# EAGLE library part SN65HVD230D (library SAE_2019)
SN65HVD230 TI - 3.3-V CAN Bus Transceivers
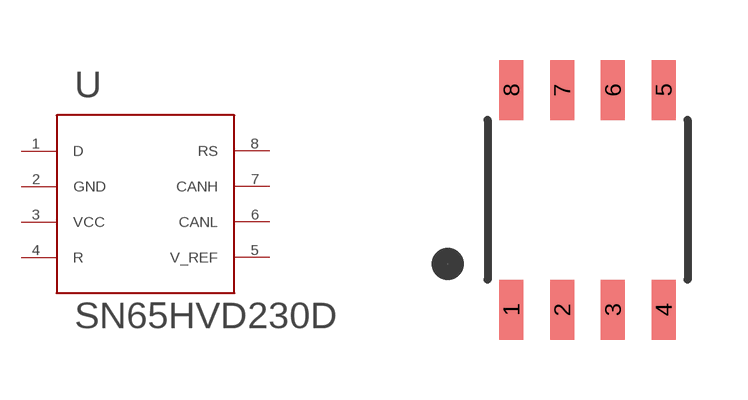
[diagram p8: symbol with the pads of R-PDSO-8; footprint R-PDSO-8]

Designator prefix -

## SN65HVD230D  [R-PDSO-8]
1  D
2  GND  pwr
3  VCC  pwr
4  R
5  V_REF
6  CANL
7  CANH
8  RS

## Footprint R-PDSO-8 (pad centres in mm)
TI R-PDS0-G8
smd 0.6 x 1.5: 1 -1.905,-2.75; 2 -0.635,-2.75; 3 0.635,-2.75; 4 1.905,-2.75; 5 1.905,2.75; 6 0.635,2.75; 7 -0.635,2.75; 8 -1.905,2.75